# EAGLE library part ATMEGA644 (library Webmaster442)
8-bit Microcontroller with 64K Bytes In-System Programmable Flash Source: http://www.atmel.com/dyn/resources/prod_documents/doc2593.pdf
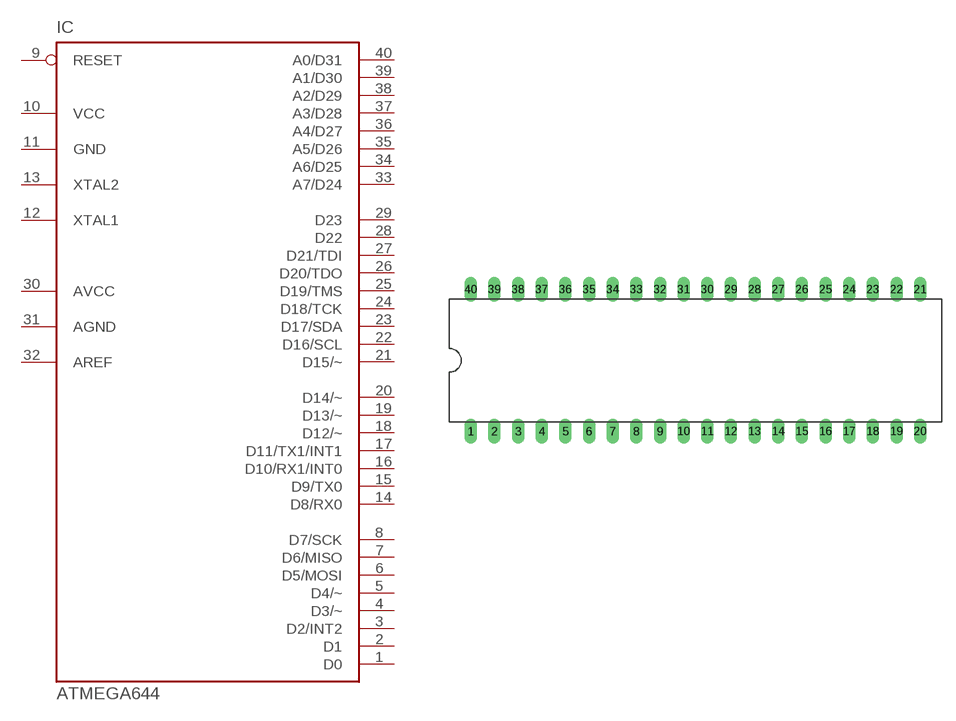
[diagram p12: symbol with the pads of DIL40; footprint DIL40]

Designator prefix IC

## ATMEGA644  [DIL40]
1  D0
2  D1
3  D2/INT2
4  D3/~
5  D4/~
6  D5/MOSI
7  D6/MISO
8  D7/SCK
9  RESET  in
10  VCC  pwr
11  GND  pwr
12  XTAL1
13  XTAL2
14  D8/RX0  out
15  D9/TX0  out
16  D10/RX1/INT0  out
17  D11/TX1/INT1  out
18  D12/~  out
19  D13/~  out
20  D14/~  out
21  D15/~  out
22  D16/SCL
23  D17/SDA
24  D18/TCK
25  D19/TMS
26  D20/TDO
27  D21/TDI
28  D22
29  D23
30  AVCC  pwr
31  AGND  pwr
32  AREF  pas
33  A7/D24
34  A6/D25
35  A5/D26
36  A4/D27
37  A3/D28
38  A2/D29
39  A1/D30
40  A0/D31

## Footprint DIL40 (pad centres in mm)
Dual In Line
drill 0.813 long: 1 -24.13,-7.62; 2 -21.59,-7.62; 3 -19.05,-7.62; 4 -16.51,-7.62; 5 -13.97,-7.62; 6 -11.43,-7.62; 7 -8.89,-7.62; 8 -6.35,-7.62; 9 -3.81,-7.62; 10 -1.27,-7.62; 11 1.27,-7.62; 12 3.81,-7.62; 13 6.35,-7.62; 14 8.89,-7.62; 15 11.43,-7.62; 16 13.97,-7.62; 17 16.51,-7.62; 18 19.05,-7.62; 19 21.59,-7.62; 20 24.13,-7.62; 21 24.13,7.62; 22 21.59,7.62; 23 19.05,7.62; 24 16.51,7.62; 25 13.97,7.62; 26 11.43,7.62; 27 8.89,7.62; 28 6.35,7.62; 29 3.81,7.62; 30 1.27,7.62; 31 -1.27,7.62; 32 -3.81,7.62; 33 -6.35,7.62; 34 -8.89,7.62; 35 -11.43,7.62; 36 -13.97,7.62; 37 -16.51,7.62; 38 -19.05,7.62; 39 -21.59,7.62; 40 -24.13,7.62